# Altium schematic symbol library WS-TATU.SchLib: 12 symbols
Pins are listed as number, name and electrical type; pins without a type are passive.

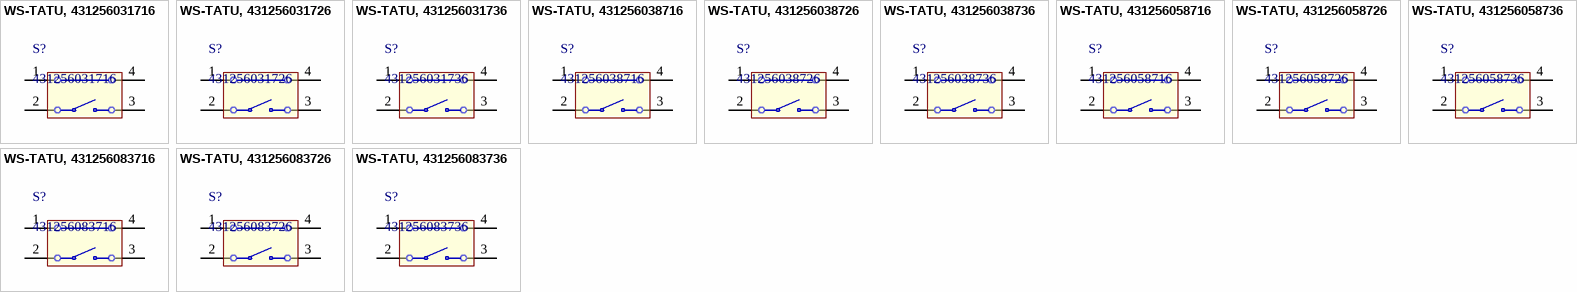
[diagram p0: symbols WS-TATU, 431256031716 to WS-TATU, 431256083736]

## WS-TATU, 431256031716
designator S?, comment 431256031716
WS-TATU 6x6 mm THT right angled with ground terminal; Manufacturer: Wurth Elektronik; partNo: 431256031716; ComponentLink1Description: Manufacturer; ComponentLink1URL: http://www.we-online.de; Created by: Baojun Chen; Created Date: Dec.2015; ComponentLink2Description: Datasheet; ComponentLink2URL: http://katalog.we-online.de/em/datasheet/4312x6xxx7x6.pdf
footprint 4312560317x6 (6*6mm right-angled,THT, height 3.15mm, black actuator, 160gf, Bulk)
pins: 1, 2, 3, 4

## WS-TATU, 431256031726
designator S?, comment 431256031726
WS-TATU 6x6 mm THT right angled with ground terminal; Manufacturer: Wurth Elektronik; partNo: 431256031726; ComponentLink1Description: Manufacturer; ComponentLink1URL: http://www.we-online.de; Created by: Baojun Chen; Created Date: Dec.2015; ComponentLink2Description: Datasheet; ComponentLink2URL: http://katalog.we-online.de/em/datasheet/4312x6xxx7x6.pdf
footprint 4312560317x6 (6*6mm right-angled,THT, height 3.15mm, black actuator, 160gf, Bulk)
pins: 1, 2, 3, 4

## WS-TATU, 431256031736
designator S?, comment 431256031736
WS-TATU 6x6 mm THT right angled with ground terminal; Manufacturer: Wurth Elektronik; partNo: 431256031736; ComponentLink1Description: Manufacturer; ComponentLink1URL: http://www.we-online.de; Created by: Baojun Chen; Created Date: Dec.2015; ComponentLink2Description: Datasheet; ComponentLink2URL: http://katalog.we-online.de/em/datasheet/4312x6xxx7x6.pdf
footprint 4312560317x6 (6*6mm right-angled,THT, height 3.15mm, black actuator, 160gf, Bulk)
pins: 1, 2, 3, 4

## WS-TATU, 431256038716
designator S?, comment 431256038716
WS-TATU 6x6 mm THT right angled with ground terminal; Manufacturer: Wurth Elektronik; partNo: 431256038716; ComponentLink1Description: Manufacturer; ComponentLink1URL: http://www.we-online.de; Created by: Baojun Chen; Created Date: Dec.2015; ComponentLink2Description: Datasheet; ComponentLink2URL: http://katalog.we-online.de/em/datasheet/4312x6xxx7x6.pdf
footprint 4312560387x6
pins: 1, 2, 3, 4

## WS-TATU, 431256038726
designator S?, comment 431256038726
WS-TATU 6x6 mm THT right angled with ground terminal; Manufacturer: Wurth Elektronik; partNo: 431256038726; ComponentLink1Description: Manufacturer; ComponentLink1URL: http://www.we-online.de; Created by: Baojun Chen; Created Date: Dec.2015; ComponentLink2Description: Datasheet; ComponentLink2URL: http://katalog.we-online.de/em/datasheet/4312x6xxx7x6.pdf
footprint 4312560387x6
pins: 1, 2, 3, 4

## WS-TATU, 431256038736
designator S?, comment 431256038736
WS-TATU 6x6 mm THT right angled with ground terminal; Manufacturer: Wurth Elektronik; partNo: 431256038736; ComponentLink1Description: Manufacturer; ComponentLink1URL: http://www.we-online.de; Created by: Baojun Chen; Created Date: Dec.2015; ComponentLink2Description: Datasheet; ComponentLink2URL: http://katalog.we-online.de/em/datasheet/4312x6xxx7x6.pdf
footprint 4312560387x6
pins: 1, 2, 3, 4

## WS-TATU, 431256058716
designator S?, comment 431256058716
WS-TATU 6x6 mm THT right angled with ground terminal; Manufacturer: Wurth Elektronik; partNo: 431256058716; ComponentLink1Description: Manufacturer; ComponentLink1URL: http://www.we-online.de; Created by: Baojun Chen; Created Date: Dec.2015; ComponentLink2Description: Datasheet; ComponentLink2URL: http://katalog.we-online.de/em/datasheet/4312x6xxx7x6.pdf
footprint 4312560587x6 (6*6mm right angle Tact switch,THT, height 5.85mm, black actuator, 160gf, Bulk)
pins: 1, 2, 3, 4

## WS-TATU, 431256058726
designator S?, comment 431256058726
WS-TATU 6x6 mm THT right angled with ground terminal; Manufacturer: Wurth Elektronik; partNo: 431256058726; ComponentLink1Description: Manufacturer; ComponentLink1URL: http://www.we-online.de; Created by: Baojun Chen; Created Date: Dec.2015; ComponentLink2Description: Datasheet; ComponentLink2URL: http://katalog.we-online.de/em/datasheet/4312x6xxx7x6.pdf
footprint 4312560587x6 (6*6mm right angle Tact switch,THT, height 5.85mm, black actuator, 160gf, Bulk)
pins: 1, 2, 3, 4

## WS-TATU, 431256058736
designator S?, comment 431256058736
WS-TATU 6x6 mm THT right angled with ground terminal; Manufacturer: Wurth Elektronik; partNo: 431256058736; ComponentLink1Description: Manufacturer; ComponentLink1URL: http://www.we-online.de; Created by: Baojun Chen; Created Date: Dec.2015; ComponentLink2Description: Datasheet; ComponentLink2URL: http://katalog.we-online.de/em/datasheet/4312x6xxx7x6.pdf
footprint 4312560587x6 (6*6mm right angle Tact switch,THT, height 5.85mm, black actuator, 160gf, Bulk)
pins: 1, 2, 3, 4

## WS-TATU, 431256083716
designator S?, comment 431256083716
WS-TATU 6x6 mm THT right angled with ground terminal; Manufacturer: Wurth Elektronik; partNo: 431256083716; ComponentLink1Description: Manufacturer; ComponentLink1URL: http://www.we-online.de; Created by: Baojun Chen; Created Date: Dec.2015; ComponentLink2Description: Datasheet; ComponentLink2URL: http://katalog.we-online.de/em/datasheet/4312x6xxx7x6.pdf
footprint 4312560837x6 (6*6mm right angle Tact switch,THT, height 8.35mm, black actuator, 160gf, Bulk)
pins: 1, 2, 3, 4

## WS-TATU, 431256083726
designator S?, comment 431256083726
WS-TATU 6x6 mm THT right angled with ground terminal; Manufacturer: Wurth Elektronik; partNo: 431256083726; ComponentLink1Description: Manufacturer; ComponentLink1URL: http://www.we-online.de; Created by: Baojun Chen; Created Date: Dec.2015; ComponentLink2Description: Datasheet; ComponentLink2URL: http://katalog.we-online.de/em/datasheet/4312x6xxx7x6.pdf
footprint 4312560837x6 (6*6mm right angle Tact switch,THT, height 8.35mm, black actuator, 160gf, Bulk)
pins: 1, 2, 3, 4

## WS-TATU, 431256083736
designator S?, comment 431256083736
WS-TATU 6x6 mm THT right angled with ground terminal; Manufacturer: Wurth Elektronik; partNo: 431256083736; ComponentLink1Description: Manufacturer; ComponentLink1URL: http://www.we-online.de; Created by: Baojun Chen; Created Date: Dec.2015; ComponentLink2Description: Datasheet; ComponentLink2URL: http://katalog.we-online.de/em/datasheet/4312x6xxx7x6.pdf
footprint 4312560837x6 (6*6mm right angle Tact switch,THT, height 8.35mm, black actuator, 160gf, Bulk)
pins: 1, 2, 3, 4